# Altium footprint library Trans_Sharp_PC817X1J000F_eec_MFG.PcbLib: 1 footprints
Each footprint in its own frame and in the unit in brackets; x right, y up, seen from the top. Pads: shape width x height; smd on the part's side, far side on the other; paste and mask are expansions set on the pad; w line width, h text height; cw(c..) or ccw(c..) is an arc to the next point about the centre after c.
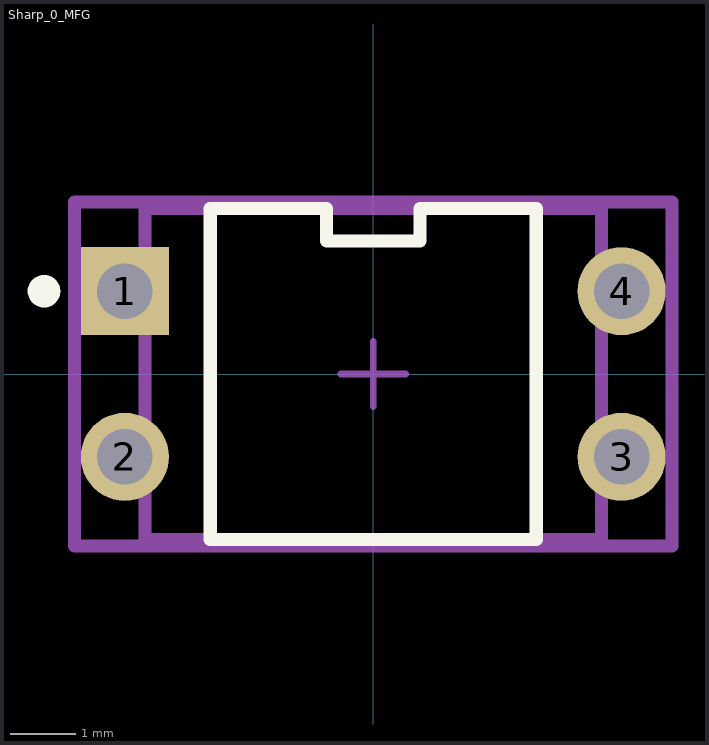
[diagram p0: the footprint, top view; thin cyan lines are the x and y axes]

## Sharp_0_MFG [mm]
pads (4):
  rect 1.35x1.35 hole 0.85 paste-1000 mask+0: 1(-3.81,1.27)
  round 1.35 hole 0.85 paste-1000 mask+0: 2(-3.81,-1.27) 3(3.81,-1.27) 4(3.81,1.27)
Top Overlay:
  circle w0.25: c-5.05,1.27 r0.125
  lines w0.2: -2.5,-2.54 -2.5,2.54 -0.714,2.54 -0.714,2.04 0.714,2.04 0.714,2.54 2.5,2.54 2.5,-2.54 -2.5,-2.54
Mechanical 10:
  lines w0.2: -4.585,-2.64 4.585,-2.64 4.585,2.64 -4.585,2.64 -4.585,-2.64
  text ".Designator" at 0,0.188 h1
Mechanical 12:
  lines w0.2: -3.5,-2.54 3.5,-2.54 3.5,2.54 -3.5,2.54 -3.5,-2.54
Mechanical 15:
  lines w0.1: -0.5,0 0.5,0 ; 0,-0.5 0,0.5
  lines w0.2: -4.585,-2.64 4.585,-2.64 4.585,2.64 -4.585,2.64 -4.585,-2.64
3D body "Trans_Sharp_PC817X1J000F_eec.STEP": height 0.25, standoff 0, extent -4.585,-2.64 4.585,2.64